# EAGLE library part AD7685 (library motorFeedback)
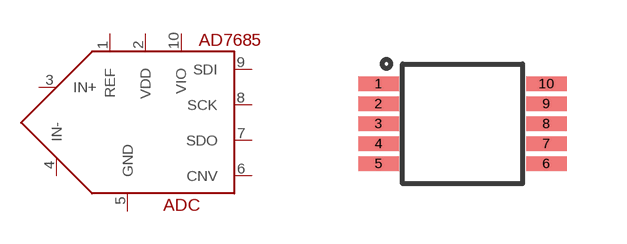
[diagram p25: symbol with the pads of MSOP-10; footprint MSOP-10]

Designator prefix ADC

## AD7685RM-10  [MSOP-10]
1  REF  sup
2  VDD  sup
3  IN+  in
4  IN-  in
5  GND  sup
6  CNV  in
7  SDO  out
8  SCK  in
9  SDI  in
10  VIO  sup

## Footprint MSOP-10 (pad centres in mm)
smd 1.016 x 0.356: 1 -2.1,1; 2 -2.1,0.5; 3 -2.1,0; 4 -2.1,-0.5; 5 -2.1,-1; 6 2.1,-1; 7 2.1,-0.5; 8 2.1,0; 9 2.1,0.5; 10 2.1,1